# Altium schematic symbol library SCH - AUDIO - VESPER VM1010.SCHLIB: 1 symbol
Pins are listed as number, name and electrical type; pins without a type are passive.

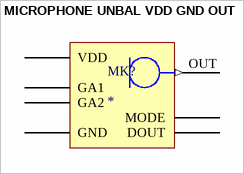
[diagram p0: symbol MICROPHONE UNBAL VDD GND OUT]

## MICROPHONE UNBAL VDD GND OUT
designator MK?
pins: DOUT, G GND, GA1, GA2, MODE, OUT (out), VDD